# Altium integrated library SparkFun-Connectors.IntLib: 348 symbols (part 8 of 9)
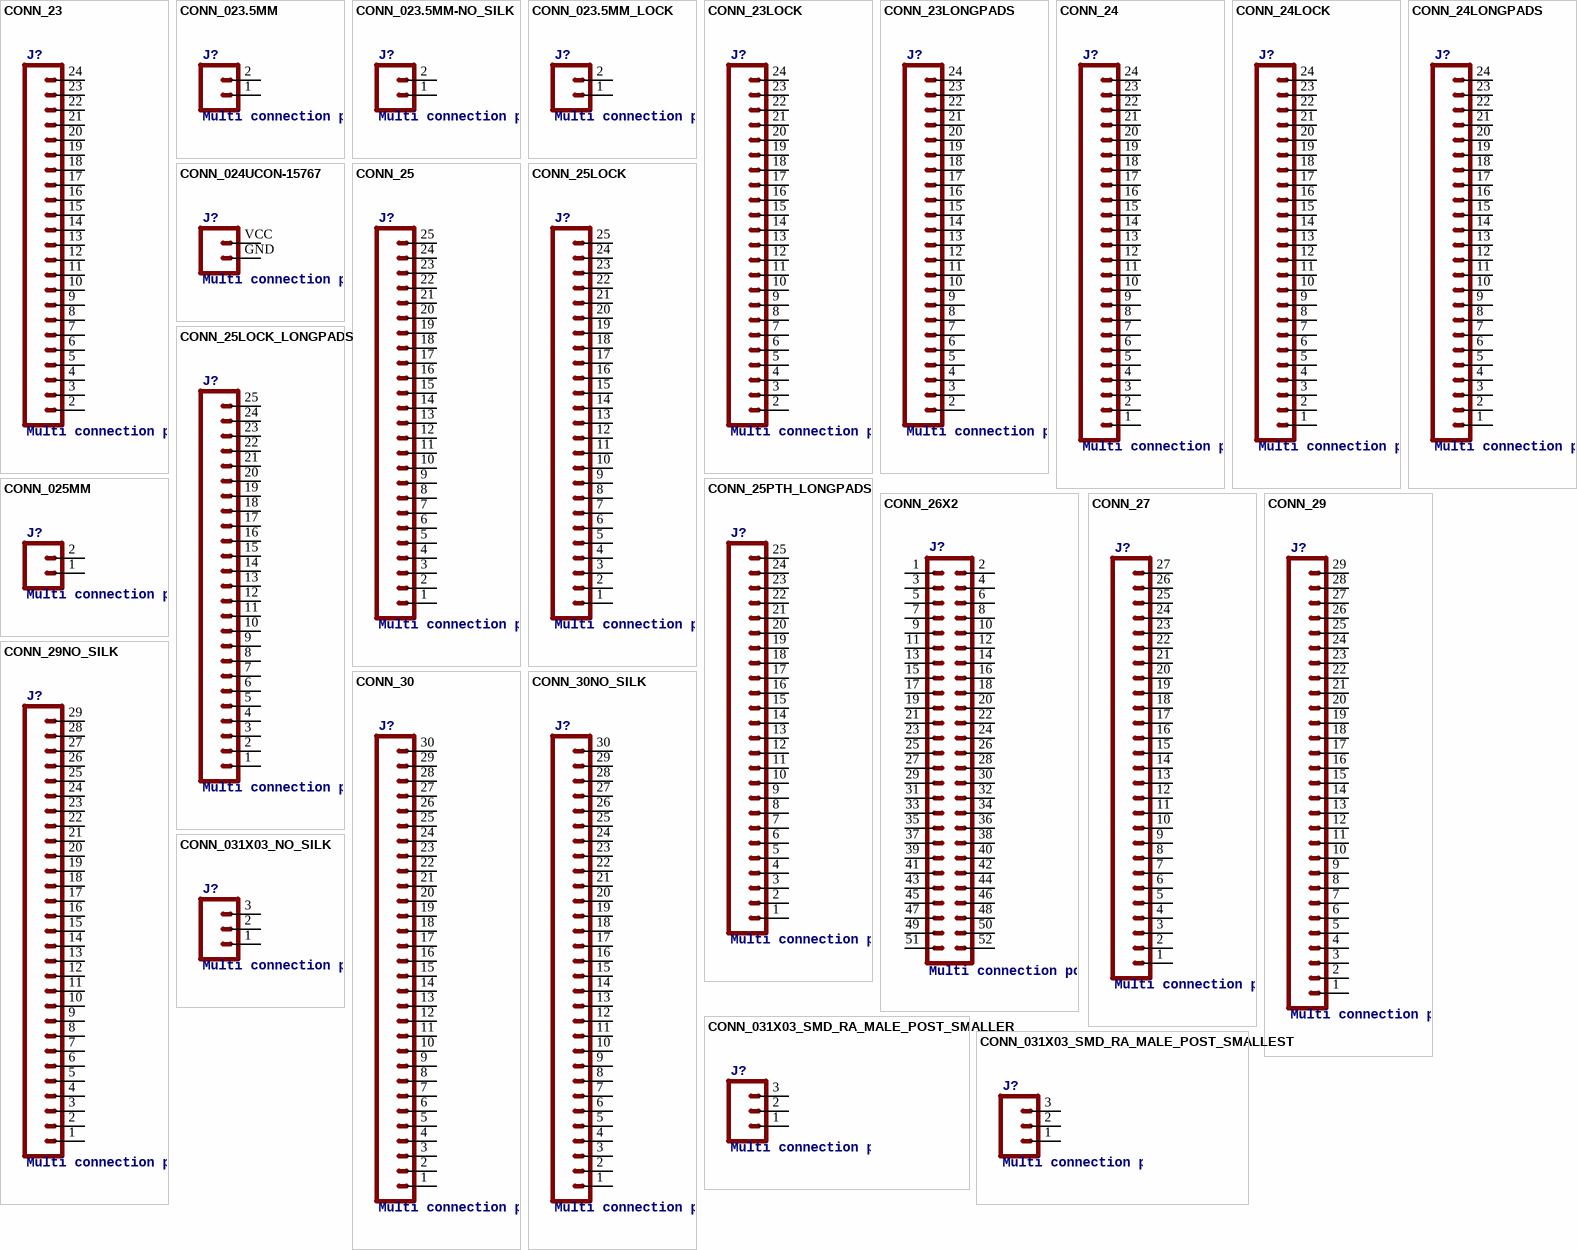
[diagram p18: symbols CONN_23 to CONN_031X03_SMD_RA_MALE_POST_SMALLEST]

## CONN_30NO_SILK
designator J?, comment Multi connection point. Often used as Generic Header-pin footprint for 0.1 inch spaced/style header connections    On any of the 0.1 inch spaced packages, you can populate with these:  Break Away Headers - Straight (PRT-00116)   Break Away Male Headers - Right Angle (PRT-00553)   Female Headers (PRT-00115)   Break Away Headers - Machine Pin (PRT-00117)   Break Away Female Headers - Swiss Machine Pin (PRT-00743)        For SCREWTERMINALS and SPRING TERMINALS visit here:  Screw Terimnals on SparkFun.com (5mm/3.5mm/2.54mm spacing)       This device is also useful as a general connection point to wire up your design to another part of your project. Our various solder wires solder well into these plated through hole pads.  Hook-Up Wire - Assortment (Stranded, 22 AWG) (PRT-11375)   Hook-Up Wire - Assortment (Solid Core, 22 AWG) (PRT-11367)   View the entire wire category on our website here          Special notes:     Molex polarized connector foot print use with SKU : PRT-08231 with associated crimp pins and housings. 1MM SMD Version SKU: PRT-10208    NOTES ON THE VARIANTS LOCK and LOCK_LONGPADS... This footprint was designed to help hold the alignment of a through-hole component (i.e.  6-pin header) while soldering it into place. You may notice that each hole has been shifted either up or down by 0.005 of an inch from it's more standard position (which is a perfectly straight line).  This slight alteration caused the pins (the squares in the middle) to touch the edges of the holes.  Because they are alternating, it causes a "brace" to hold the component in place.  0.005 has proven to be the perfect amount of "off-center" position when using our standard breakaway headers. Although looks a little odd when you look at the bare footprint, once you have a header in there, the alteration is very hard to notice.  Also,if you push a header all the way into place, it is covered up entirely on the bottom side.
footprint 1X30_NO_SILK
pins: 1, 2, 3, 4, 5, 6, 7, 8, 9, 10, 11, 12, 13, 14, 15, 16, 17, 18, 19, 20, 21, 22, 23, 24, 25, 26, 27, 28, 29, 30

## CONN_031X03_NO_SILK
designator J?, comment Multi connection point. Often used as Generic Header-pin footprint for 0.1 inch spaced/style header connections    On any of the 0.1 inch spaced packages, you can populate with these:  Break Away Headers - Straight (PRT-00116)   Break Away Male Headers - Right Angle (PRT-00553)   Female Headers (PRT-00115)   Break Away Headers - Machine Pin (PRT-00117)   Break Away Female Headers - Swiss Machine Pin (PRT-00743)   Stackable Header - 3 Pin (Female, 0.1") (PRT-13875)        For SCREWTERMINALS and SPRING TERMINALS visit here:  Screw Terimnals on SparkFun.com (5mm/3.5mm/2.54mm spacing)       This device is also useful as a general connection point to wire up your design to another part of your project. Our various solder wires solder well into these plated through hole pads.  Hook-Up Wire - Assortment (Stranded, 22 AWG) (PRT-11375)   Hook-Up Wire - Assortment (Solid Core, 22 AWG) (PRT-11367)   View the entire wire category on our website here          Special notes:         Molex polarized connector foot print use with SKU : PRT-08232 with associated crimp pins and housings.
footprint 1X03_NO_SILK
pins: 1, 2, 3

## CONN_031X03_SMD_RA_MALE_POST_SMALLER
designator J?, comment Multi connection point. Often used as Generic Header-pin footprint for 0.1 inch spaced/style header connections    On any of the 0.1 inch spaced packages, you can populate with these:  Break Away Headers - Straight (PRT-00116)   Break Away Male Headers - Right Angle (PRT-00553)   Female Headers (PRT-00115)   Break Away Headers - Machine Pin (PRT-00117)   Break Away Female Headers - Swiss Machine Pin (PRT-00743)   Stackable Header - 3 Pin (Female, 0.1") (PRT-13875)        For SCREWTERMINALS and SPRING TERMINALS visit here:  Screw Terimnals on SparkFun.com (5mm/3.5mm/2.54mm spacing)       This device is also useful as a general connection point to wire up your design to another part of your project. Our various solder wires solder well into these plated through hole pads.  Hook-Up Wire - Assortment (Stranded, 22 AWG) (PRT-11375)   Hook-Up Wire - Assortment (Solid Core, 22 AWG) (PRT-11367)   View the entire wire category on our website here          Special notes:         Molex polarized connector foot print use with SKU : PRT-08232 with associated crimp pins and housings.
PROD_ID: CONN-11912
footprint 1X03_SMD_RA_MALE_POST_SMALLER
pins: 1, 2, 3

## CONN_031X03_SMD_RA_MALE_POST_SMALLEST
designator J?, comment Multi connection point. Often used as Generic Header-pin footprint for 0.1 inch spaced/style header connections    On any of the 0.1 inch spaced packages, you can populate with these:  Break Away Headers - Straight (PRT-00116)   Break Away Male Headers - Right Angle (PRT-00553)   Female Headers (PRT-00115)   Break Away Headers - Machine Pin (PRT-00117)   Break Away Female Headers - Swiss Machine Pin (PRT-00743)   Stackable Header - 3 Pin (Female, 0.1") (PRT-13875)        For SCREWTERMINALS and SPRING TERMINALS visit here:  Screw Terimnals on SparkFun.com (5mm/3.5mm/2.54mm spacing)       This device is also useful as a general connection point to wire up your design to another part of your project. Our various solder wires solder well into these plated through hole pads.  Hook-Up Wire - Assortment (Stranded, 22 AWG) (PRT-11375)   Hook-Up Wire - Assortment (Solid Core, 22 AWG) (PRT-11367)   View the entire wire category on our website here          Special notes:         Molex polarized connector foot print use with SKU : PRT-08232 with associated crimp pins and housings.
footprint 1X03_SMD_RA_MALE_POST_SMALLEST
pins: 1, 2, 3

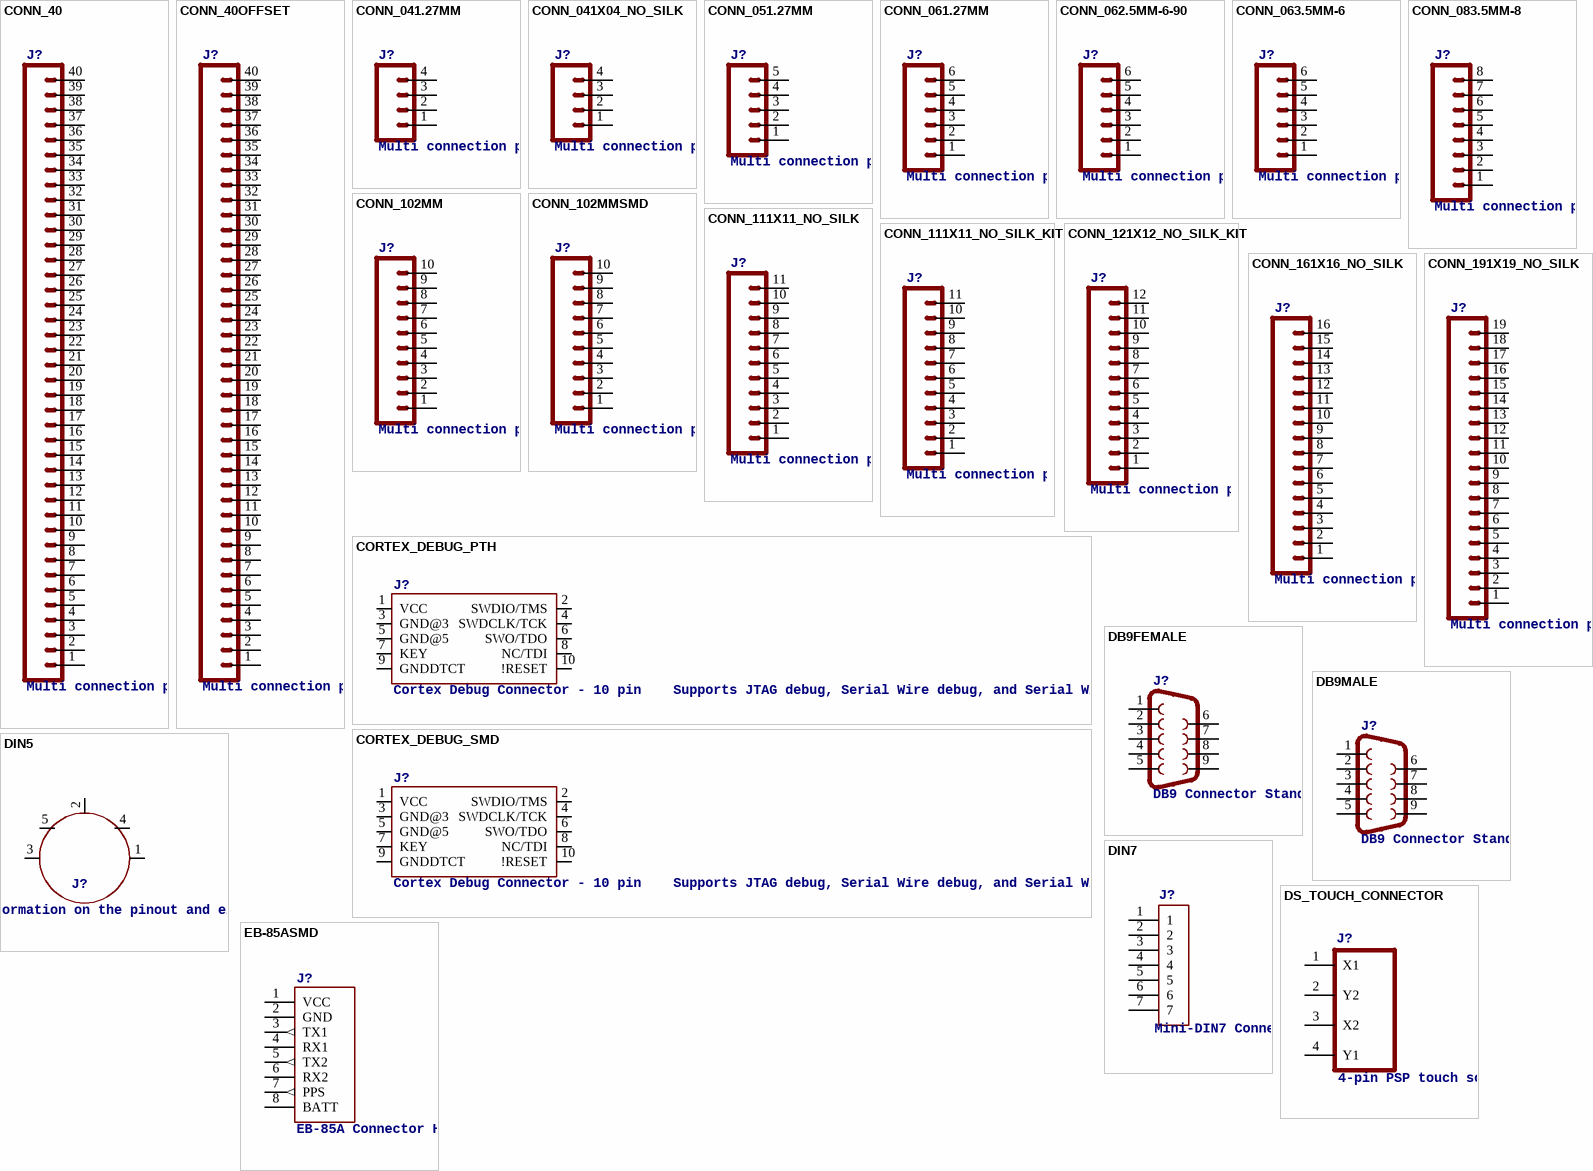
[diagram p7: symbols CONN_40 to EB-85ASMD]

## CONN_40
designator J?, comment Multi connection point. Often used as Generic Header-pin footprint for 0.1 inch spaced/style header connections    On any of the 0.1 inch spaced packages, you can populate with these:  Break Away Headers - Straight (PRT-00116)   Break Away Male Headers - Right Angle (PRT-00553)   Female Headers (PRT-00115)   Break Away Headers - Machine Pin (PRT-00117)   Break Away Female Headers - Swiss Machine Pin (PRT-00743)        For SCREWTERMINALS and SPRING TERMINALS visit here:  Screw Terimnals on SparkFun.com (5mm/3.5mm/2.54mm spacing)       This device is also useful as a general connection point to wire up your design to another part of your project. Our various solder wires solder well into these plated through hole pads.  Hook-Up Wire - Assortment (Stranded, 22 AWG) (PRT-11375)   Hook-Up Wire - Assortment (Solid Core, 22 AWG) (PRT-11367)   View the entire wire category on our website here          Special notes:     Molex polarized connector foot print use with SKU : PRT-08231 with associated crimp pins and housings. 1MM SMD Version SKU: PRT-10208    NOTES ON THE VARIANTS LOCK and LOCK_LONGPADS... This footprint was designed to help hold the alignment of a through-hole component (i.e.  6-pin header) while soldering it into place. You may notice that each hole has been shifted either up or down by 0.005 of an inch from it's more standard position (which is a perfectly straight line).  This slight alteration caused the pins (the squares in the middle) to touch the edges of the holes.  Because they are alternating, it causes a "brace" to hold the component in place.  0.005 has proven to be the perfect amount of "off-center" position when using our standard breakaway headers. Although looks a little odd when you look at the bare footprint, once you have a header in there, the alteration is very hard to notice.  Also,if you push a header all the way into place, it is covered up entirely on the bottom side.
footprint 1X40
pins: 1, 2, 3, 4, 5, 6, 7, 8, 9, 10, 11, 12, 13, 14, 15, 16, 17, 18, 19, 20, 21, 22, 23, 24, 25, 26, 27, 28, 29, 30, 31, 32, 33, 34, 35, 36, 37, 38, 39, 40

## CONN_40OFFSET
designator J?, comment Multi connection point. Often used as Generic Header-pin footprint for 0.1 inch spaced/style header connections    On any of the 0.1 inch spaced packages, you can populate with these:  Break Away Headers - Straight (PRT-00116)   Break Away Male Headers - Right Angle (PRT-00553)   Female Headers (PRT-00115)   Break Away Headers - Machine Pin (PRT-00117)   Break Away Female Headers - Swiss Machine Pin (PRT-00743)        For SCREWTERMINALS and SPRING TERMINALS visit here:  Screw Terimnals on SparkFun.com (5mm/3.5mm/2.54mm spacing)       This device is also useful as a general connection point to wire up your design to another part of your project. Our various solder wires solder well into these plated through hole pads.  Hook-Up Wire - Assortment (Stranded, 22 AWG) (PRT-11375)   Hook-Up Wire - Assortment (Solid Core, 22 AWG) (PRT-11367)   View the entire wire category on our website here          Special notes:     Molex polarized connector foot print use with SKU : PRT-08231 with associated crimp pins and housings. 1MM SMD Version SKU: PRT-10208    NOTES ON THE VARIANTS LOCK and LOCK_LONGPADS... This footprint was designed to help hold the alignment of a through-hole component (i.e.  6-pin header) while soldering it into place. You may notice that each hole has been shifted either up or down by 0.005 of an inch from it's more standard position (which is a perfectly straight line).  This slight alteration caused the pins (the squares in the middle) to touch the edges of the holes.  Because they are alternating, it causes a "brace" to hold the component in place.  0.005 has proven to be the perfect amount of "off-center" position when using our standard breakaway headers. Although looks a little odd when you look at the bare footprint, once you have a header in there, the alteration is very hard to notice.  Also,if you push a header all the way into place, it is covered up entirely on the bottom side.
footprint 1X40_OFFSET
pins: 1, 2, 3, 4, 5, 6, 7, 8, 9, 10, 11, 12, 13, 14, 15, 16, 17, 18, 19, 20, 21, 22, 23, 24, 25, 26, 27, 28, 29, 30, 31, 32, 33, 34, 35, 36, 37, 38, 39, 40

## CONN_041.27MM
designator J?, comment Multi connection point. Often used as Generic Header-pin footprint for 0.1 inch spaced/style header connections    On any of the 0.1 inch spaced packages, you can populate with these:  Break Away Headers - Straight (PRT-00116)   Break Away Male Headers - Right Angle (PRT-00553)   Female Headers (PRT-00115)   Break Away Headers - Machine Pin (PRT-00117)   Break Away Female Headers - Swiss Machine Pin (PRT-00743)        For SCREWTERMINALS and SPRING TERMINALS visit here:  Screw Terimnals on SparkFun.com (5mm/3.5mm/2.54mm spacing)       This device is also useful as a general connection point to wire up your design to another part of your project. Our various solder wires solder well into these plated through hole pads.  Hook-Up Wire - Assortment (Stranded, 22 AWG) (PRT-11375)   Hook-Up Wire - Assortment (Solid Core, 22 AWG) (PRT-11367)   View the entire wire category on our website here          Special notes:     Molex polarized connector foot print use with SKU : PRT-08231 with associated crimp pins and housings. 1MM SMD Version SKU: PRT-10208
footprint 1X04_1.27MM
pins: 1, 2, 3, 4

## CONN_041X04_NO_SILK
designator J?, comment Multi connection point. Often used as Generic Header-pin footprint for 0.1 inch spaced/style header connections    On any of the 0.1 inch spaced packages, you can populate with these:  Break Away Headers - Straight (PRT-00116)   Break Away Male Headers - Right Angle (PRT-00553)   Female Headers (PRT-00115)   Break Away Headers - Machine Pin (PRT-00117)   Break Away Female Headers - Swiss Machine Pin (PRT-00743)        For SCREWTERMINALS and SPRING TERMINALS visit here:  Screw Terimnals on SparkFun.com (5mm/3.5mm/2.54mm spacing)       This device is also useful as a general connection point to wire up your design to another part of your project. Our various solder wires solder well into these plated through hole pads.  Hook-Up Wire - Assortment (Stranded, 22 AWG) (PRT-11375)   Hook-Up Wire - Assortment (Solid Core, 22 AWG) (PRT-11367)   View the entire wire category on our website here          Special notes:     Molex polarized connector foot print use with SKU : PRT-08231 with associated crimp pins and housings. 1MM SMD Version SKU: PRT-10208
PROD_ID: CONN-09696
footprint 1X04_NO_SILK
pins: 1, 2, 3, 4

## CONN_051.27MM
designator J?, comment Multi connection point. Often used as Generic Header-pin footprint for 0.1 inch spaced/style header connections    On any of the 0.1 inch spaced packages, you can populate with these:  Break Away Headers - Straight (PRT-00116)   Break Away Male Headers - Right Angle (PRT-00553)   Female Headers (PRT-00115)   Break Away Headers - Machine Pin (PRT-00117)   Break Away Female Headers - Swiss Machine Pin (PRT-00743)        For SCREWTERMINALS and SPRING TERMINALS visit here:  Screw Terimnals on SparkFun.com (5mm/3.5mm/2.54mm spacing)       This device is also useful as a general connection point to wire up your design to another part of your project. Our various solder wires solder well into these plated through hole pads.  Hook-Up Wire - Assortment (Stranded, 22 AWG) (PRT-11375)   Hook-Up Wire - Assortment (Solid Core, 22 AWG) (PRT-11367)   View the entire wire category on our website here          Special notes:     Molex polarized connector foot print use with SKU : PRT-08231 with associated crimp pins and housings. 1MM SMD Version SKU: PRT-10208
footprint 1X05_1.27MM
pins: 1, 2, 3, 4, 5

## CONN_061.27MM
designator J?, comment Multi connection point. Often used as Generic Header-pin footprint for 0.1 inch spaced/style header connections    On any of the 0.1 inch spaced packages, you can populate with these:  Break Away Headers - Straight (PRT-00116)   Break Away Male Headers - Right Angle (PRT-00553)   Female Headers (PRT-00115)   Break Away Headers - Machine Pin (PRT-00117)   Break Away Female Headers - Swiss Machine Pin (PRT-00743)   Arduino Stackable Header - 6 Pin (PRT-09280)        For SCREWTERMINALS and SPRING TERMINALS visit here:  Screw Terimnals on SparkFun.com (5mm/3.5mm/2.54mm spacing)       This device is also useful as a general connection point to wire up your design to another part of your project. Our various solder wires solder well into these plated through hole pads.  Hook-Up Wire - Assortment (Stranded, 22 AWG) (PRT-11375)   Hook-Up Wire - Assortment (Solid Core, 22 AWG) (PRT-11367)   View the entire wire category on our website here
footprint 1X06_1.27MM
pins: 1, 2, 3, 4, 5, 6

## CONN_062.5MM-6-90
designator J?, comment Multi connection point. Often used as Generic Header-pin footprint for 0.1 inch spaced/style header connections    On any of the 0.1 inch spaced packages, you can populate with these:  Break Away Headers - Straight (PRT-00116)   Break Away Male Headers - Right Angle (PRT-00553)   Female Headers (PRT-00115)   Break Away Headers - Machine Pin (PRT-00117)   Break Away Female Headers - Swiss Machine Pin (PRT-00743)   Arduino Stackable Header - 6 Pin (PRT-09280)        For SCREWTERMINALS and SPRING TERMINALS visit here:  Screw Terimnals on SparkFun.com (5mm/3.5mm/2.54mm spacing)       This device is also useful as a general connection point to wire up your design to another part of your project. Our various solder wires solder well into these plated through hole pads.  Hook-Up Wire - Assortment (Stranded, 22 AWG) (PRT-11375)   Hook-Up Wire - Assortment (Solid Core, 22 AWG) (PRT-11367)   View the entire wire category on our website here
footprint 1X06_SCREW_TERMINAL_BLOCK
pins: 1, 2, 3, 4, 5, 6

## CONN_063.5MM-6
designator J?, comment Multi connection point. Often used as Generic Header-pin footprint for 0.1 inch spaced/style header connections    On any of the 0.1 inch spaced packages, you can populate with these:  Break Away Headers - Straight (PRT-00116)   Break Away Male Headers - Right Angle (PRT-00553)   Female Headers (PRT-00115)   Break Away Headers - Machine Pin (PRT-00117)   Break Away Female Headers - Swiss Machine Pin (PRT-00743)   Arduino Stackable Header - 6 Pin (PRT-09280)        For SCREWTERMINALS and SPRING TERMINALS visit here:  Screw Terimnals on SparkFun.com (5mm/3.5mm/2.54mm spacing)       This device is also useful as a general connection point to wire up your design to another part of your project. Our various solder wires solder well into these plated through hole pads.  Hook-Up Wire - Assortment (Stranded, 22 AWG) (PRT-11375)   Hook-Up Wire - Assortment (Solid Core, 22 AWG) (PRT-11367)   View the entire wire category on our website here
footprint SCREWTERMINAL-3.5MM-6
pins: 1, 2, 3, 4, 5, 6

## CONN_083.5MM-8
designator J?, comment Multi connection point. Often used as Generic Header-pin footprint for 0.1 inch spaced/style header connections    On any of the 0.1 inch spaced packages, you can populate with these:  Break Away Headers - Straight (PRT-00116)   Break Away Male Headers - Right Angle (PRT-00553)   Female Headers (PRT-00115)   Break Away Headers - Machine Pin (PRT-00117)   Break Away Female Headers - Swiss Machine Pin (PRT-00743)   Arduino Stackable Header - 8 Pin (PRT-09279)        For SCREWTERMINALS and SPRING TERMINALS visit here:  Screw Terimnals on SparkFun.com (5mm/3.5mm/2.54mm spacing)       This device is also useful as a general connection point to wire up your design to another part of your project. Our various solder wires solder well into these plated through hole pads.  Hook-Up Wire - Assortment (Stranded, 22 AWG) (PRT-11375)   Hook-Up Wire - Assortment (Solid Core, 22 AWG) (PRT-11367)   View the entire wire category on our website here          Special notes:     Molex polarized connector foot print use with SKU : PRT-08231 with associated crimp pins and housings. 1MM SMD Version SKU: PRT-10208    NOTES ON THE VARIANTS LOCK and LOCK_LONGPADS... This footprint was designed to help hold the alignment of a through-hole component (i.e.  6-pin header) while soldering it into place. You may notice that each hole has been shifted either up or down by 0.005 of an inch from it's more standard position (which is a perfectly straight line).  This slight alteration caused the pins (the squares in the middle) to touch the edges of the holes.  Because they are alternating, it causes a "brace" to hold the component in place.  0.005 has proven to be the perfect amount of "off-center" position when using our standard breakaway headers. Although looks a little odd when you look at the bare footprint, once you have a header in there, the alteration is very hard to notice.  Also,if you push a header all the way into place, it is covered up entirely on the bottom side.
footprint SCREWTERMINAL-3.5MM-8
pins: 1, 2, 3, 4, 5, 6, 7, 8

## CONN_102MM
designator J?, comment Multi connection point. Often used as Generic Header-pin footprint for 0.1 inch spaced/style header connections    On any of the 0.1 inch spaced packages, you can populate with these:  Break Away Headers - Straight (PRT-00116)   Break Away Male Headers - Right Angle (PRT-00553)   Female Headers (PRT-00115)   Break Away Headers - Machine Pin (PRT-00117)   Break Away Female Headers - Swiss Machine Pin (PRT-00743)   Arduino Stackable Header - 10 Pin (PRT-11376)        For SCREWTERMINALS and SPRING TERMINALS visit here:  Screw Terimnals on SparkFun.com (5mm/3.5mm/2.54mm spacing)       This device is also useful as a general connection point to wire up your design to another part of your project. Our various solder wires solder well into these plated through hole pads.  Hook-Up Wire - Assortment (Stranded, 22 AWG) (PRT-11375)   Hook-Up Wire - Assortment (Solid Core, 22 AWG) (PRT-11367)   View the entire wire category on our website here          Special notes:     Molex polarized connector foot print use with SKU : PRT-08231 with associated crimp pins and housings. 1MM SMD Version SKU: PRT-10208    NOTES ON THE VARIANTS LOCK and LOCK_LONGPADS... This footprint was designed to help hold the alignment of a through-hole component (i.e.  6-pin header) while soldering it into place. You may notice that each hole has been shifted either up or down by 0.005 of an inch from it's more standard position (which is a perfectly straight line).  This slight alteration caused the pins (the squares in the middle) to touch the edges of the holes.  Because they are alternating, it causes a "brace" to hold the component in place.  0.005 has proven to be the perfect amount of "off-center" position when using our standard breakaway headers. Although looks a little odd when you look at the bare footprint, once you have a header in there, the alteration is very hard to notice.  Also,if you push a header all the way into place, it is covered up entirely on the bottom side.
PROD_ID: CONN-08875; SF_ID: PRT-08272
footprint 1X10-2MM
pins: 1, 2, 3, 4, 5, 6, 7, 8, 9, 10

## CONN_102MMSMD
designator J?, comment Multi connection point. Often used as Generic Header-pin footprint for 0.1 inch spaced/style header connections    On any of the 0.1 inch spaced packages, you can populate with these:  Break Away Headers - Straight (PRT-00116)   Break Away Male Headers - Right Angle (PRT-00553)   Female Headers (PRT-00115)   Break Away Headers - Machine Pin (PRT-00117)   Break Away Female Headers - Swiss Machine Pin (PRT-00743)   Arduino Stackable Header - 10 Pin (PRT-11376)        For SCREWTERMINALS and SPRING TERMINALS visit here:  Screw Terimnals on SparkFun.com (5mm/3.5mm/2.54mm spacing)       This device is also useful as a general connection point to wire up your design to another part of your project. Our various solder wires solder well into these plated through hole pads.  Hook-Up Wire - Assortment (Stranded, 22 AWG) (PRT-11375)   Hook-Up Wire - Assortment (Solid Core, 22 AWG) (PRT-11367)   View the entire wire category on our website here          Special notes:     Molex polarized connector foot print use with SKU : PRT-08231 with associated crimp pins and housings. 1MM SMD Version SKU: PRT-10208    NOTES ON THE VARIANTS LOCK and LOCK_LONGPADS... This footprint was designed to help hold the alignment of a through-hole component (i.e.  6-pin header) while soldering it into place. You may notice that each hole has been shifted either up or down by 0.005 of an inch from it's more standard position (which is a perfectly straight line).  This slight alteration caused the pins (the squares in the middle) to touch the edges of the holes.  Because they are alternating, it causes a "brace" to hold the component in place.  0.005 has proven to be the perfect amount of "off-center" position when using our standard breakaway headers. Although looks a little odd when you look at the bare footprint, once you have a header in there, the alteration is very hard to notice.  Also,if you push a header all the way into place, it is covered up entirely on the bottom side.
PROD_ID: CONN-09042; SF_ID: PRT-10030
footprint 1X10-2MM-SMD
pins: 1, 2, 3, 4, 5, 6, 7, 8, 9, 10

## CONN_111X11_NO_SILK
designator J?, comment Multi connection point. Often used as Generic Header-pin footprint for 0.1 inch spaced/style header connections    On any of the 0.1 inch spaced packages, you can populate with these:  Break Away Headers - Straight (PRT-00116)   Break Away Male Headers - Right Angle (PRT-00553)   Female Headers (PRT-00115)   Break Away Headers - Machine Pin (PRT-00117)   Break Away Female Headers - Swiss Machine Pin (PRT-00743)        For SCREWTERMINALS and SPRING TERMINALS visit here:  Screw Terimnals on SparkFun.com (5mm/3.5mm/2.54mm spacing)       This device is also useful as a general connection point to wire up your design to another part of your project. Our various solder wires solder well into these plated through hole pads.  Hook-Up Wire - Assortment (Stranded, 22 AWG) (PRT-11375)   Hook-Up Wire - Assortment (Solid Core, 22 AWG) (PRT-11367)   View the entire wire category on our website here
footprint 1X11_NO_SILK
pins: 1, 2, 3, 4, 5, 6, 7, 8, 9, 10, 11

## CONN_111X11_NO_SILK_KIT
designator J?, comment Multi connection point. Often used as Generic Header-pin footprint for 0.1 inch spaced/style header connections    On any of the 0.1 inch spaced packages, you can populate with these:  Break Away Headers - Straight (PRT-00116)   Break Away Male Headers - Right Angle (PRT-00553)   Female Headers (PRT-00115)   Break Away Headers - Machine Pin (PRT-00117)   Break Away Female Headers - Swiss Machine Pin (PRT-00743)        For SCREWTERMINALS and SPRING TERMINALS visit here:  Screw Terimnals on SparkFun.com (5mm/3.5mm/2.54mm spacing)       This device is also useful as a general connection point to wire up your design to another part of your project. Our various solder wires solder well into these plated through hole pads.  Hook-Up Wire - Assortment (Stranded, 22 AWG) (PRT-11375)   Hook-Up Wire - Assortment (Solid Core, 22 AWG) (PRT-11367)   View the entire wire category on our website here
footprint 1X11_NO_SILK_KIT
pins: 1, 2, 3, 4, 5, 6, 7, 8, 9, 10, 11

## CONN_121X12_NO_SILK_KIT
designator J?, comment Multi connection point. Often used as Generic Header-pin footprint for 0.1 inch spaced/style header connections    On any of the 0.1 inch spaced packages, you can populate with these:  Break Away Headers - Straight (PRT-00116)   Break Away Male Headers - Right Angle (PRT-00553)   Female Headers (PRT-00115)   Break Away Headers - Machine Pin (PRT-00117)   Break Away Female Headers - Swiss Machine Pin (PRT-00743)        For SCREWTERMINALS and SPRING TERMINALS visit here:  Screw Terimnals on SparkFun.com (5mm/3.5mm/2.54mm spacing)       This device is also useful as a general connection point to wire up your design to another part of your project. Our various solder wires solder well into these plated through hole pads.  Hook-Up Wire - Assortment (Stranded, 22 AWG) (PRT-11375)   Hook-Up Wire - Assortment (Solid Core, 22 AWG) (PRT-11367)   View the entire wire category on our website here          Special notes:     Molex polarized connector foot print use with SKU : PRT-08231 with associated crimp pins and housings. 1MM SMD Version SKU: PRT-10208    NOTES ON THE VARIANTS LOCK and LOCK_LONGPADS... This footprint was designed to help hold the alignment of a through-hole component (i.e.  6-pin header) while soldering it into place. You may notice that each hole has been shifted either up or down by 0.005 of an inch from it's more standard position (which is a perfectly straight line).  This slight alteration caused the pins (the squares in the middle) to touch the edges of the holes.  Because they are alternating, it causes a "brace" to hold the component in place.  0.005 has proven to be the perfect amount of "off-center" position when using our standard breakaway headers. Although looks a little odd when you look at the bare footprint, once you have a header in there, the alteration is very hard to notice.  Also,if you push a header all the way into place, it is covered up entirely on the bottom side.
footprint 1X12_NO_SILK_KIT
pins: 1, 2, 3, 4, 5, 6, 7, 8, 9, 10, 11, 12

## CONN_161X16_NO_SILK
designator J?, comment Multi connection point. Often used as Generic Header-pin footprint for 0.1 inch spaced/style header connections    On any of the 0.1 inch spaced packages, you can populate with these:  Break Away Headers - Straight (PRT-00116)   Break Away Male Headers - Right Angle (PRT-00553)   Female Headers (PRT-00115)   Break Away Headers - Machine Pin (PRT-00117)   Break Away Female Headers - Swiss Machine Pin (PRT-00743)        For SCREWTERMINALS and SPRING TERMINALS visit here:  Screw Terimnals on SparkFun.com (5mm/3.5mm/2.54mm spacing)       This device is also useful as a general connection point to wire up your design to another part of your project. Our various solder wires solder well into these plated through hole pads.  Hook-Up Wire - Assortment (Stranded, 22 AWG) (PRT-11375)   Hook-Up Wire - Assortment (Solid Core, 22 AWG) (PRT-11367)   View the entire wire category on our website here          Special notes:     Molex polarized connector foot print use with SKU : PRT-08231 with associated crimp pins and housings. 1MM SMD Version SKU: PRT-10208    NOTES ON THE VARIANTS LOCK and LOCK_LONGPADS... This footprint was designed to help hold the alignment of a through-hole component (i.e.  6-pin header) while soldering it into place. You may notice that each hole has been shifted either up or down by 0.005 of an inch from it's more standard position (which is a perfectly straight line).  This slight alteration caused the pins (the squares in the middle) to touch the edges of the holes.  Because they are alternating, it causes a "brace" to hold the component in place.  0.005 has proven to be the perfect amount of "off-center" position when using our standard breakaway headers. Although looks a little odd when you look at the bare footprint, once you have a header in there, the alteration is very hard to notice.  Also,if you push a header all the way into place, it is covered up entirely on the bottom side.
footprint 1X16_NO_SILK
pins: 1, 2, 3, 4, 5, 6, 7, 8, 9, 10, 11, 12, 13, 14, 15, 16

## CONN_191X19_NO_SILK
designator J?, comment Multi connection point. Often used as Generic Header-pin footprint for 0.1 inch spaced/style header connections    On any of the 0.1 inch spaced packages, you can populate with these:  Break Away Headers - Straight (PRT-00116)   Break Away Male Headers - Right Angle (PRT-00553)   Female Headers (PRT-00115)   Break Away Headers - Machine Pin (PRT-00117)   Break Away Female Headers - Swiss Machine Pin (PRT-00743)        For SCREWTERMINALS and SPRING TERMINALS visit here:  Screw Terimnals on SparkFun.com (5mm/3.5mm/2.54mm spacing)       This device is also useful as a general connection point to wire up your design to another part of your project. Our various solder wires solder well into these plated through hole pads.  Hook-Up Wire - Assortment (Stranded, 22 AWG) (PRT-11375)   Hook-Up Wire - Assortment (Solid Core, 22 AWG) (PRT-11367)   View the entire wire category on our website here          Special notes:     Molex polarized connector foot print use with SKU : PRT-08231 with associated crimp pins and housings. 1MM SMD Version SKU: PRT-10208    NOTES ON THE VARIANTS LOCK and LOCK_LONGPADS... This footprint was designed to help hold the alignment of a through-hole component (i.e.  6-pin header) while soldering it into place. You may notice that each hole has been shifted either up or down by 0.005 of an inch from it's more standard position (which is a perfectly straight line).  This slight alteration caused the pins (the squares in the middle) to touch the edges of the holes.  Because they are alternating, it causes a "brace" to hold the component in place.  0.005 has proven to be the perfect amount of "off-center" position when using our standard breakaway headers. Although looks a little odd when you look at the bare footprint, once you have a header in there, the alteration is very hard to notice.  Also,if you push a header all the way into place, it is covered up entirely on the bottom side.
footprint 1X19_NO_SILK
pins: 1, 2, 3, 4, 5, 6, 7, 8, 9, 10, 11, 12, 13, 14, 15, 16, 17, 18, 19

## CORTEX_DEBUG_PTH
designator J?, comment Cortex Debug Connector - 10 pin    Supports JTAG debug, Serial Wire debug, and Serial Wire Viewer. PTH and SMD connector options available.    General Connector Information    Products: PTH Connector -via Digi-Key  SparkFun PSoc  SparkFun T
footprint 2X5-PTH-1.27MM
pins: 1 VCC, 2 SWDIO/TMS, 3 GND@3, 4 SWDCLK/TCK, 5 GND@5, 6 SWO/TDO, 7 KEY, 8 NC/TDI, 9 GNDDTCT, 10 !RESET

## CORTEX_DEBUG_SMD
designator J?, comment Cortex Debug Connector - 10 pin    Supports JTAG debug, Serial Wire debug, and Serial Wire Viewer. PTH and SMD connector options available.    General Connector Information    Products: PTH Connector -via Digi-Key  SparkFun PSoc  SparkFun T
footprint SAMTECH_FTSH-105-01
pins: 1 VCC, 2 SWDIO/TMS, 3 GND@3, 4 SWDCLK/TCK, 5 GND@5, 6 SWO/TDO, 7 KEY, 8 NC/TDI, 9 GNDDTCT, 10 !RESET

## DB9FEMALE
designator J?, comment DB9 Connector Standard DB9 (D-Sub 9) serial connector. Can be used for CAN bus as well as RS485 and RS232. Footprint production proven.    Here is the female version connector we sell at SparkFun:  9 Pin Female Serial Connector - PCB Mount (PRT-00429)       This connector has been used on the following SparkFun products: SparkFun RS232 Shifter - SMD (PRT-00449)   SparkFun RS232 Shifter SMD (No DB9) (PRT-08780)
PROD_ID: CONN-08194
footprint DB9
pins: 1, 2, 3, 4, 5, 6, 7, 8, 9

## DB9MALE
designator J?, comment DB9 Connector Standard DB9 (D-Sub 9) serial connector. Can be used for CAN bus as well as RS485 and RS232. Footprint production proven.    Here is the female version connector we sell at SparkFun:  9 Pin Female Serial Connector - PCB Mount (PRT-00429)       This connector has been used on the following SparkFun products: SparkFun RS232 Shifter - SMD (PRT-00449)   SparkFun RS232 Shifter SMD (No DB9) (PRT-08780)
PROD_ID: CONN-09904
footprint DB9_MALE
pins: 1, 2, 3, 4, 5, 6, 7, 8, 9

## DIN5
designator J?, comment DIN5 Connector - Female Right Angle (frequently used as a MIDI Jack connector) This type of connector and cable is frequently used for transmitting midi data (musical instrument digital interface). It is what you usually see on a keyboard or set of electronic drums. Learn more here.   For more information on the pinout and electrical specifications of MIDI communications, please see the following resource: https://www.midi.org/specifications/item/midi-din-electrical-specification   Here is the connector we sell at SparkFun: MIDI Connector - Female Right Angle (PRT-09536)  Datasheet      It is used on this SparkFun product: SparkFun MIDI Shield (DEV-12898)
PROD_ID: CONN-09481
footprint DIN5-RA-PTH
pins: 1, 2, 3, 4, 5

## DIN7
designator J?, comment Mini-DIN7 Connector Through-hole MiniDIN 7 connector. Commonly used with Roomba products. Don't confuse this with DIN-6, which is commonly used on oldschool keyboards and mice.    Here is the female version connector we sell at SparkFun:  MiniDIN 7-Pin Connector (PRT-00696)
PROD_ID: CONN-08318; SF_ID: PRT-00696
footprint DIN7
pins: 1, 2, 3, 4, 5, 6, 7

## DS_TOUCH_CONNECTOR
designator J?, comment 4-pin PSP touch screen connector This is the SMD connector for the PSP touch screen. 4-pin right angle good, friction fit connector with 1 mm pitch. This connector is compatible with the PSP Touch Screen NOT the Sharp Color 24-Bit LCD.    Here is the connector we sell at SparkFun: Color 24-Bit LCD 4.3" PSP Touch Screen Connector (LCD-09104)       It was also used on this SparkFun product: SparkFun Nintendo DS Screen Kit (LCD-13631)
PROD_ID: CONN-0913; SF_ID: LCD-09104
footprint DS_TOUCH_CONNECTOR
pins: 1 X1, 2 Y2, 3 X2, 4 Y1

## EB-85ASMD
designator J?, comment EB-85A Connector Horizontal surface mount connector for the EB-85A/FV-M8 GPS receiver.    Here is the connector we sell at SparkFun: Connector Horizontal SMD for EB-85A (GPS-08297)  Datasheet      It was also used on this SparkFun product:  This connector is not on any currently live products, however it has been used on previously reitred products, so the package is proven.
PROD_ID: CONN-08435; SF_ID: GPS-08297
footprint EB-85A
pins: 1 VCC (power), 2 GND (power), 3 TX1 (out), 4 RX1, 5 TX2 (out), 6 RX2, 7 PPS (out), 8 BATT (power)

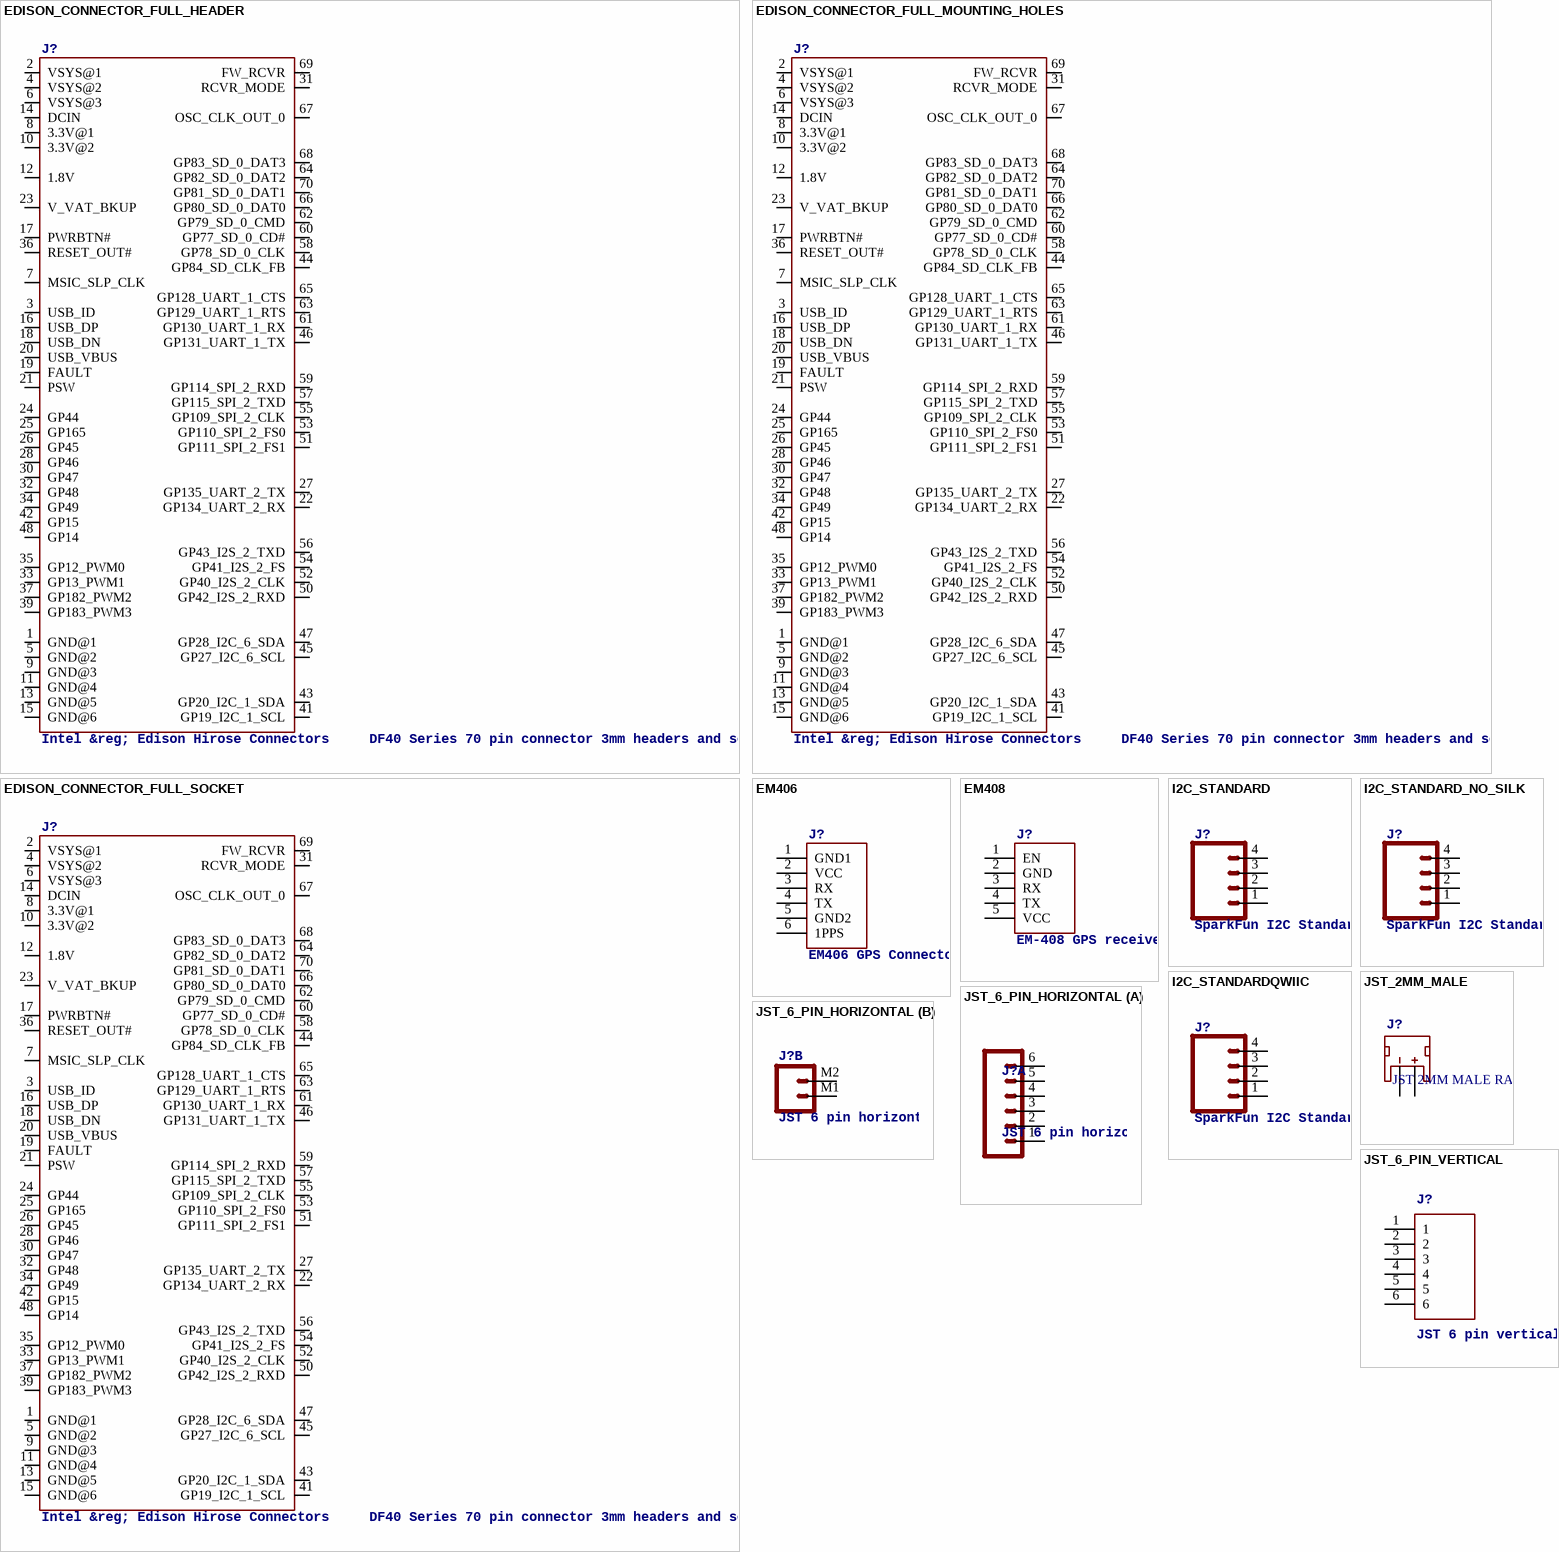
[diagram p8: symbols EDISON_CONNECTOR_FULL_HEADER to JST_6_PIN_VERTICAL]

## EDISON_CONNECTOR_FULL_HEADER
designator J?, comment Intel &reg; Edison Hirose Connectors     DF40 Series 70 pin connector 3mm headers and sockets used on the SparkFun Edison Blocks.    Edison Daughter package includes layout for the Edison module itself, including mounting holes and antenna area marked.   SparkFun Products: SparkFun ADC Edison Block  SparkFun Power Edison Block  SparkFun Base Edison Block  SparkFun Dual H-Bridge Edison Block  SparkFun microSD Edison Block
PROD_ID: CONN-12248
footprint DF40C-70DP-0.4(51)
pins: 1 GND@1, 2 VSYS@1, 3 USB_ID, 4 VSYS@2, 5 GND@2, 6 VSYS@3, 7 MSIC_SLP_CLK, 8 3.3V@1, 9 GND@3, 10 3.3V@2, 11 GND@4, 12 1.8V, 13 GND@5, 14 DCIN, 15 GND@6, 16 USB_DP, 17 PWRBTN#, 18 USB_DN, 19 FAULT, 20 USB_VBUS, 21 PSW, 22 GP134_UART_2_RX, 23 V_VAT_BKUP, 24 GP44, 25 GP165, 26 GP45, 27 GP135_UART_2_TX, 28 GP46, 30 GP47, 31 RCVR_MODE, 32 GP48, 33 GP13_PWM1, 34 GP49, 35 GP12_PWM0, 36 RESET_OUT#, 37 GP182_PWM2, 39 GP183_PWM3, 41 GP19_I2C_1_SCL, 42 GP15, 43 GP20_I2C_1_SDA, 44 GP84_SD_CLK_FB, 45 GP27_I2C_6_SCL, 46 GP131_UART_1_TX, 47 GP28_I2C_6_SDA, 48 GP14, 50 GP42_I2S_2_RXD, 51 GP111_SPI_2_FS1, 52 GP40_I2S_2_CLK, 53 GP110_SPI_2_FS0, 54 GP41_I2S_2_FS, 55 GP109_SPI_2_CLK, 56 GP43_I2S_2_TXD, 57 GP115_SPI_2_TXD, 58 GP78_SD_0_CLK, 59 GP114_SPI_2_RXD, 60 GP77_SD_0_CD#, 61 GP130_UART_1_RX, 62 GP79_SD_0_CMD, 63 GP129_UART_1_RTS, 64 GP82_SD_0_DAT2, 65 GP128_UART_1_CTS, 66 GP80_SD_0_DAT0, 67 OSC_CLK_OUT_0, 68 GP83_SD_0_DAT3, 69 FW_RCVR, 70 GP81_SD_0_DAT1

## EDISON_CONNECTOR_FULL_MOUNTING_HOLES
designator J?, comment Intel &reg; Edison Hirose Connectors     DF40 Series 70 pin connector 3mm headers and sockets used on the SparkFun Edison Blocks.    Edison Daughter package includes layout for the Edison module itself, including mounting holes and antenna area marked.   SparkFun Products: SparkFun ADC Edison Block  SparkFun Power Edison Block  SparkFun Base Edison Block  SparkFun Dual H-Bridge Edison Block  SparkFun microSD Edison Block
footprint EDISON_DAUGHTER
pins: 1 GND@1, 2 VSYS@1, 3 USB_ID, 4 VSYS@2, 5 GND@2, 6 VSYS@3, 7 MSIC_SLP_CLK, 8 3.3V@1, 9 GND@3, 10 3.3V@2, 11 GND@4, 12 1.8V, 13 GND@5, 14 DCIN, 15 GND@6, 16 USB_DP, 17 PWRBTN#, 18 USB_DN, 19 FAULT, 20 USB_VBUS, 21 PSW, 22 GP134_UART_2_RX, 23 V_VAT_BKUP, 24 GP44, 25 GP165, 26 GP45, 27 GP135_UART_2_TX, 28 GP46, 30 GP47, 31 RCVR_MODE, 32 GP48, 33 GP13_PWM1, 34 GP49, 35 GP12_PWM0, 36 RESET_OUT#, 37 GP182_PWM2, 39 GP183_PWM3, 41 GP19_I2C_1_SCL, 42 GP15, 43 GP20_I2C_1_SDA, 44 GP84_SD_CLK_FB, 45 GP27_I2C_6_SCL, 46 GP131_UART_1_TX, 47 GP28_I2C_6_SDA, 48 GP14, 50 GP42_I2S_2_RXD, 51 GP111_SPI_2_FS1, 52 GP40_I2S_2_CLK, 53 GP110_SPI_2_FS0, 54 GP41_I2S_2_FS, 55 GP109_SPI_2_CLK, 56 GP43_I2S_2_TXD, 57 GP115_SPI_2_TXD, 58 GP78_SD_0_CLK, 59 GP114_SPI_2_RXD, 60 GP77_SD_0_CD#, 61 GP130_UART_1_RX, 62 GP79_SD_0_CMD, 63 GP129_UART_1_RTS, 64 GP82_SD_0_DAT2, 65 GP128_UART_1_CTS, 66 GP80_SD_0_DAT0, 67 OSC_CLK_OUT_0, 68 GP83_SD_0_DAT3, 69 FW_RCVR, 70 GP81_SD_0_DAT1

## EDISON_CONNECTOR_FULL_SOCKET
designator J?, comment Intel &reg; Edison Hirose Connectors     DF40 Series 70 pin connector 3mm headers and sockets used on the SparkFun Edison Blocks.    Edison Daughter package includes layout for the Edison module itself, including mounting holes and antenna area marked.   SparkFun Products: SparkFun ADC Edison Block  SparkFun Power Edison Block  SparkFun Base Edison Block  SparkFun Dual H-Bridge Edison Block  SparkFun microSD Edison Block
PROD_ID: CONN-12247
footprint DF40-XC-(X.X)-70DS-0.4V(51)
pins: 1 GND@1, 2 VSYS@1, 3 USB_ID, 4 VSYS@2, 5 GND@2, 6 VSYS@3, 7 MSIC_SLP_CLK, 8 3.3V@1, 9 GND@3, 10 3.3V@2, 11 GND@4, 12 1.8V, 13 GND@5, 14 DCIN, 15 GND@6, 16 USB_DP, 17 PWRBTN#, 18 USB_DN, 19 FAULT, 20 USB_VBUS, 21 PSW, 22 GP134_UART_2_RX, 23 V_VAT_BKUP, 24 GP44, 25 GP165, 26 GP45, 27 GP135_UART_2_TX, 28 GP46, 30 GP47, 31 RCVR_MODE, 32 GP48, 33 GP13_PWM1, 34 GP49, 35 GP12_PWM0, 36 RESET_OUT#, 37 GP182_PWM2, 39 GP183_PWM3, 41 GP19_I2C_1_SCL, 42 GP15, 43 GP20_I2C_1_SDA, 44 GP84_SD_CLK_FB, 45 GP27_I2C_6_SCL, 46 GP131_UART_1_TX, 47 GP28_I2C_6_SDA, 48 GP14, 50 GP42_I2S_2_RXD, 51 GP111_SPI_2_FS1, 52 GP40_I2S_2_CLK, 53 GP110_SPI_2_FS0, 54 GP41_I2S_2_FS, 55 GP109_SPI_2_CLK, 56 GP43_I2S_2_TXD, 57 GP115_SPI_2_TXD, 58 GP78_SD_0_CLK, 59 GP114_SPI_2_RXD, 60 GP77_SD_0_CD#, 61 GP130_UART_1_RX, 62 GP79_SD_0_CMD, 63 GP129_UART_1_RTS, 64 GP82_SD_0_DAT2, 65 GP128_UART_1_CTS, 66 GP80_SD_0_DAT0, 67 OSC_CLK_OUT_0, 68 GP83_SD_0_DAT3, 69 FW_RCVR, 70 GP81_SD_0_DAT1

## EM406
designator J?, comment EM406 GPS Connector Here is a six pin vertical 1.0mm pitch connector. It is useful if you need something very tiny as a connection. These are not the standard JST type connectors we use on most of our boards, but are actually the much smaller JST-SH type.    Here is the connector we sell at SparkFun: JST SH Vertical 6-Pin Connector - SMD (GPS-00579)  Datasheet      It was used on these SparkFun products: SparkFun GPS Breakout (BOB-11818)  SparkFun Weather Shield (DEV-12081)  And many, many other GPS related products.
PROD_ID: CONN-08249; SF_ID: GPS-00579
footprint 1X06-1MM
pins: 1 GND1, 2 VCC, 3 RX, 4 TX, 5 GND2, 6 1PPS

## EM408
designator J?, comment EM-408 GPS receiver connector This is the mating connector for the EM408 GPS receiver. The EM408 connects to the board via a cable. Note, this connector footprint does not include the outline of the receiver.    Here is the connector we sell at SparkFun: Connector Vertical SMD for EM408 (GPS-08288)  Datasheet      It was also used on this SparkFun product:  This connector is not on any currently live products, however it has been used on previously reitred products, so the package is proven.       Special note: You should include the "EM408_Outline" device in your schematic if you are to use the EM408 in your design.
PROD_ID: CONN-08528; SF_ID: GPS-08288
footprint 1X05_1MM
pins: 1 EN, 2 GND (power), 3 RX, 4 TX, 5 VCC (power)

## I2C_STANDARD
designator J?, comment SparkFun I2C Standard Pinout Header    SparkFun has standardized on a pinout for all I2C based sensor breakouts.  This pinout allows I2C boards to be plugged directly into the headers on Arduino Uno compatible boards, and to be daisy chained easily.   Example SparkFun Products: SparkFun Atmospheric Sensor Breakout - BME280  SparkFun Altitude/Pressure Sensor Breakout - MPL3115A2  SparkFun TOF Range Finder Sensor - VL6180
footprint 1X04
pins: 1 (power), 2 (power), 3, 4

## I2C_STANDARD_NO_SILK
designator J?, comment SparkFun I2C Standard Pinout Header    SparkFun has standardized on a pinout for all I2C based sensor breakouts.  This pinout allows I2C boards to be plugged directly into the headers on Arduino Uno compatible boards, and to be daisy chained easily.   Example SparkFun Products: SparkFun Atmospheric Sensor Breakout - BME280  SparkFun Altitude/Pressure Sensor Breakout - MPL3115A2  SparkFun TOF Range Finder Sensor - VL6180
footprint 1X04_NO_SILK
pins: 1 (power), 2 (power), 3, 4

## I2C_STANDARDQWIIC
designator J?, comment SparkFun I2C Standard Pinout Header    SparkFun has standardized on a pinout for all I2C based sensor breakouts.  This pinout allows I2C boards to be plugged directly into the headers on Arduino Uno compatible boards, and to be daisy chained easily.   Example SparkFun Products: SparkFun Atmospheric Sensor Breakout - BME280  SparkFun Altitude/Pressure Sensor Breakout - MPL3115A2  SparkFun TOF Range Finder Sensor - VL6180
PROD_ID: CONN-13694
footprint 1X04_1MM_RA
pins: 1 (power), 2 (power), 3, 4

## JST_2MM_MALE
designator J?, comment JST 2MM MALE RA CONNECTOR Two pin, compact surface mount connector. Commonly used as a battery input connection point. We really like the solid locking feeling and high current rating on these small connectors. We use these all the time as battery connectors. Mates to single-cell LiPo batteries.    Here is the connector we sell at SparkFun: JST Right Angle Connector - White (PRT-08612)  Datasheet      It was used on these SparkFun products: SparkFun MOSFET Power Controller (PRT-11214)  SparkFun Battery Babysitter - LiPo Battery Manager (PRT-13777)  And many, many others that required a lipo battery connection.
PROD_ID: CONN-11443; SF_ID: PRT-08612
footprint JST-2-SMD
pins: 1 -, 2 +, NC1 PAD1, NC2 PAD2

## JST_6_PIN_HORIZONTAL
designator J?, comment JST 6 pin horizontal connector JST-SH type.    Here is the connector we sell at SparkFun: name (XXX-00000)  Datasheet      It was used on these SparkFun products: name (XXX-00000)  name (XXX-00000)
PROD_ID: XXX-00000
footprint JST-6-SMD-HORI-1.0MM
part A pins: 1, 2, 3, 4, 5, 6
part B pins: M1 1, M2 2

## JST_6_PIN_VERTICAL
designator J?, comment JST 6 pin vertical connector Here is a six pin vertical 1.0mm pitch connector. It is useful if you need something very tiny as a connection. These are not the standard JST type connectors we use on most of our boards, but are actually the much smaller JST-SH type.    Here is the connector we sell at SparkFun: JST SH Vertical 6-Pin Connector - SMD (GPS-00579)  Datasheet      It was used on these SparkFun products: SparkFun GPS Breakout (BOB-11818)  SparkFun Weather Shield (DEV-12081)  And many, many other GPS related products.
PROD_ID: CONN-08249; SF_ID: GPS-00579
footprint JST-6-SMD-VERT-1.0MM
pins: 1, 2, 3, 4, 5, 6

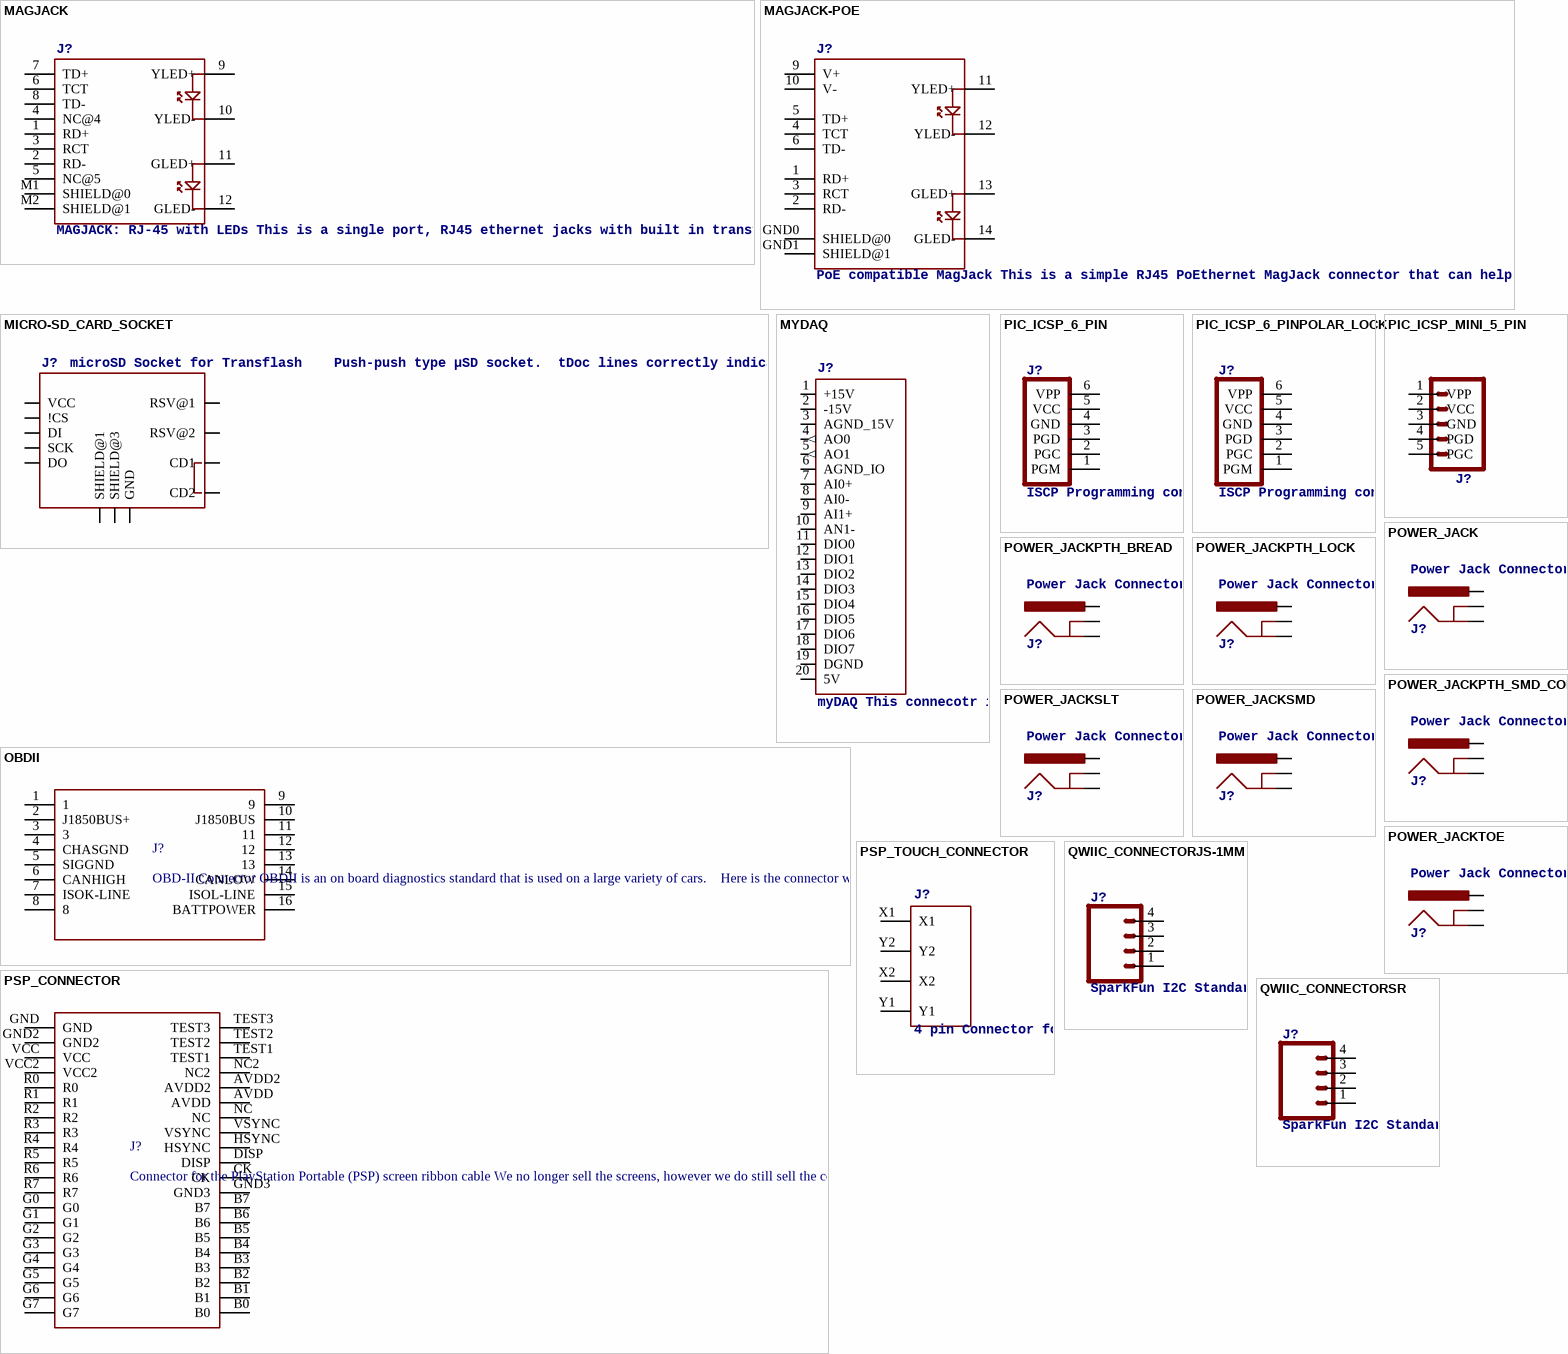
[diagram p9: symbols MAGJACK to QWIIC_CONNECTORSR]

## MAGJACK
designator J?, comment MAGJACK: RJ-45 with LEDs This is a single port, RJ45 ethernet jacks with built in transformer (magnetics), status LEDs, and shielding.    Here is the connector we sell at SparkFun: RJ45 Ethernet MagJack-Compatible (PRT-08534)  Datasheet      It is used on this SparkFun product: SparkFun RJ45 MagJack Breakout (BOB-13021)
PROD_ID: CONN-09556; SF_ID: PRT-08534
footprint MAGJACK
pins: 1 RD+, 2 RD-, 3 RCT, 4 NC@4, 5 NC@5, 6 TCT, 7 TD+, 8 TD-, 9 YLED+, 10 YLED-, 11 GLED+, 12 GLED-, M1 SHIELD@0, M2 SHIELD@1

## MAGJACK-POE
designator J?, comment PoE compatible MagJack This is a simple RJ45 PoEthernet MagJack connector that can help connect you to the Internet with the ability to provide power.    Here is the connector we sell at SparkFun: RJ45 PoE MagJack (PRT-13606)       Note:  This connector is not on any currently live SparkFun products, however it has been used on previously reitred products, so the package is proven.
PROD_ID: CONN-10659; SF_ID: PRT-13606
footprint MAGJACK-POE
pins: 1 RD+, 2 RD-, 3 RCT, 4 TCT, 5 TD+, 6 TD-, 9 V+, 10 V-, 11 YLED+, 12 YLED-, 13 GLED+, 14 GLED-, GND0 SHIELD@0, GND1 SHIELD@1

## MICRO-SD_CARD_SOCKET
designator J?, comment microSD Socket for Transflash    Push-push type µSD socket.  tDoc lines correctly indicate media card edge positions when inserting (unlocked, locked, depressed).   NOTE: CD1 and CD2 are connected internally, and the default detect state of the socket is detect pin to ground.   SparkFun Products: WAV Trigger  CAN-Bus Shield  SparkFun Level Shifing microSD Breakout
PROD_ID: CONN-07820; SF_ID: PRT-00127
footprint MICRO-SD-SOCKET
pins: CD1, CD2, CS !CS, DI, DO, GND, GND1 SHIELD@1, GND3 SHIELD@3, RSV1 RSV@1, RSV2 RSV@2, SCLK SCK, VCC

## MYDAQ
designator J?, comment myDAQ This connecotr is used in the National Instruments myDAQ measurement and control tool ecosystem. Learn more at the myDAQ website. The connector is a 20pin 3.81mm spaced Female Right Angle Terminal Block (PTH).    Sorry, we do not sell the connector as an individual part at SparkFun, howere here is a link to the datasheet: Datasheet      It is used on this SparkFun product: SparkFun myDAQ Protoboard Kit (DEV-10705)
PROD_ID: CONN-10450
footprint 3.81MM_TERMINAL_BLOCK_FEMALE_LOCKING
pins: 1 +15V (power), 2 -15V (power), 3 AGND_15V (power), 4 AO0 (out), 5 AO1 (out), 6 AGND_IO (power), 7 AI0+, 8 AI0-, 9 AI1+, 10 AN1-, 11 DIO0, 12 DIO1, 13 DIO2, 14 DIO3, 15 DIO4, 16 DIO5, 17 DIO6, 18 DIO7, 19 DGND (power), 20 5V (power)

## OBDII
designator J?, comment OBD-II Connector OBDII is an on board diagnostics standard that is used on a large variety of cars.    Here is the connector we sell at SparkFun: OBD-II connector (DEV-09911)  Info and Pinout (sorry, no datasheet)       We do not use this connector on any active designs, however, if you're looking for OBDII tech, please check out these: SparkFun OBD related products
SF_ID: DEV-09911
footprint OBDII
pins: 1, 2 J1850BUS+, 3, 4 CHASGND, 5 SIGGND, 6 CANHIGH, 7 ISOK-LINE, 8, 9, 10 J1850BUS, 11, 12, 13, 14 CANLOW, 15 ISOL-LINE, 16 BATTPOWER

## PIC_ICSP_6_PIN
designator J?, comment ISCP Programming connector for PICs This 6 pin header contains all the lines necessary for programming most PIC microcontrollers.    Here is the connector we sell at SparkFun: Polarized Connectors - Header (6-Pin) (PRT-08094)       It is used on this SparkFun product: SparkFun UDB5 - PIC UAV Development Board (DEV-11703)       Also, if you need a nice PIC programmer, please check these out: MPLAB PICkit 3 (PGM-09973)
PROD_ID: CONN-08046; SF_ID: PRT-08094
footprint MOLEX-1X6
pins: 1 PGM, 2 PGC, 3 PGD, 4 GND (power), 5 VCC (power), 6 VPP

## PIC_ICSP_6_PINPOLAR_LOCK
designator J?, comment ISCP Programming connector for PICs This 6 pin header contains all the lines necessary for programming most PIC microcontrollers.    Here is the connector we sell at SparkFun: Polarized Connectors - Header (6-Pin) (PRT-08094)       It is used on this SparkFun product: SparkFun UDB5 - PIC UAV Development Board (DEV-11703)       Also, if you need a nice PIC programmer, please check these out: MPLAB PICkit 3 (PGM-09973)
footprint MOLEX-1X6_LOCK
pins: 1 PGM, 2 PGC, 3 PGD, 4 GND (power), 5 VCC (power), 6 VPP

## PIC_ICSP_MINI_5_PIN
designator J?, comment PIC-ICSP-MiniMiniature 5-pin connection for temporary programming of PICs. Use this device in your design to save space.  Miniature ISCP Programming connector for PICs This 5 pin header contains all the lines necessary for programming most PIC microcontrollers. Use this device in your design to save space.    Here is the connector we sell at SparkFun: 5-Pin Mini ICSP Connector (PRT-11264)       It is used on these SparkFun products: USB Bit Whacker - 18F2553 Development Board (DEV-00762)  SparkFun Serial Enabled LCD Backpack (LCD-00258)       Also, if you need a nice PIC programmer, please check these out: MPLAB PICkit 3 (PGM-09973)
PROD_ID: CONN-08314; SF_ID: PRT-11264
footprint PIC_ICSP_MINI_5_PIN
pins: 1 VPP, 2 VCC, 3 GND, 4 PGD, 5 PGC